# Altium footprint library LQFP128.PcbLib: 1 footprints
Each footprint in its own frame and in the unit in brackets; x right, y up, seen from the top. Pads: shape width x height; smd on the part's side, far side on the other; paste and mask are expansions set on the pad; w line width, h text height; cw(c..) or ccw(c..) is an arc to the next point about the centre after c.
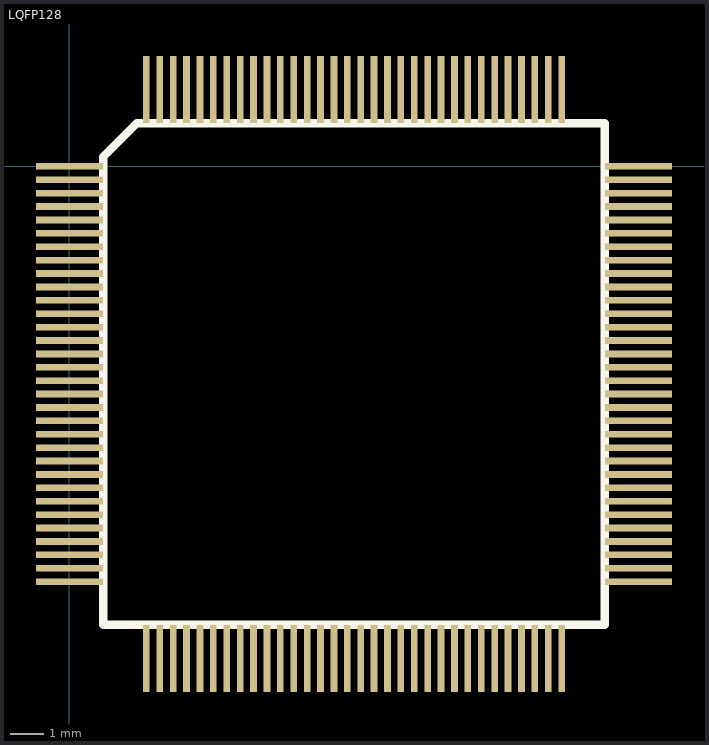
[diagram p0: the footprint, top view; thin cyan lines are the x and y axes]

## LQFP128 [mm]
height 1.4
pads (128):
  rect 2x0.2 smd: 1(0,0) 2(0,-0.4) 3(0,-0.8) 4(0,-1.2) 5(0,-1.6) 6(0,-2) 7(0,-2.4) 8(0,-2.8) 9(0,-3.2) 10(0,-3.6) 11(0,-4) 12(0,-4.4) 13(0,-4.8) 14(0,-5.2) 15(0,-5.6) 16(0,-6) 17(0,-6.4) 18(0,-6.8) 19(0,-7.2) 20(0,-7.6) 21(0,-8) 22(0,-8.4) 23(0,-8.8) 24(0,-9.2) 25(0,-9.6) 26(0,-10) 27(0,-10.4) 28(0,-10.8) 29(0,-11.2) 30(0,-11.6) 31(0,-12) 32(0,-12.4) 65(17,-12.4) 66(17,-12) 67(17,-11.6) 68(17,-11.2) 69(17,-10.8) 70(17,-10.4) 71(17,-10) 72(17,-9.6) 73(17,-9.2) 74(17,-8.8) 75(17,-8.4) 76(17,-8) 77(17,-7.6) 78(17,-7.2) 79(17,-6.8) 80(17,-6.4) 81(17,-6) 82(17,-5.6) 83(17,-5.2) 84(17,-4.8) 85(17,-4.4) 86(17,-4) 87(17,-3.6) 88(17,-3.2) 89(17,-2.8) 90(17,-2.4) 91(17,-2) 92(17,-1.6) 93(17,-1.2) 94(17,-0.8) 95(17,-0.4) 96(17,0)
  rect 0.2x2 smd: 33(2.3,-14.7) 34(2.7,-14.7) 35(3.1,-14.7) 36(3.5,-14.7) 37(3.9,-14.7) 38(4.3,-14.7) 39(4.7,-14.7) 40(5.1,-14.7) 41(5.5,-14.7) 42(5.9,-14.7) 43(6.3,-14.7) 44(6.7,-14.7) 45(7.1,-14.7) 46(7.5,-14.7) 47(7.9,-14.7) 48(8.3,-14.7) 49(8.7,-14.7) 50(9.1,-14.7) 51(9.5,-14.7) 52(9.9,-14.7) 53(10.3,-14.7) 54(10.7,-14.7) 55(11.1,-14.7) 56(11.5,-14.7) 57(11.9,-14.7) 58(12.3,-14.7) 59(12.7,-14.7) 60(13.1,-14.7) 61(13.5,-14.7) 62(13.9,-14.7) 63(14.3,-14.7) 64(14.7,-14.7) 97(14.7,2.3) 98(14.3,2.3) 99(13.9,2.3) 100(13.5,2.3) 101(13.1,2.3) 102(12.7,2.3) 103(12.3,2.3) 104(11.9,2.3) 105(11.5,2.3) 106(11.1,2.3) 107(10.7,2.3) 108(10.3,2.3) 109(9.9,2.3) 110(9.5,2.3) 111(9.1,2.3) 112(8.7,2.3) 113(8.3,2.3) 114(7.9,2.3) 115(7.5,2.3) 116(7.1,2.3) 117(6.7,2.3) 118(6.3,2.3) 119(5.9,2.3) 120(5.5,2.3) 121(5.1,2.3) 122(4.7,2.3) 123(4.3,2.3) 124(3.9,2.3) 125(3.5,2.3) 126(3.1,2.3) 127(2.7,2.3) 128(2.3,2.3)
Top Overlay:
  lines w0.254: 1.008,-13.692 15.992,-13.692 15.992,1.292 2.016,1.292 1.008,0.284 1.008,-13.692